# EAGLE library part RPA60-2412SFW_P (library RPA60-2412SFW_P)
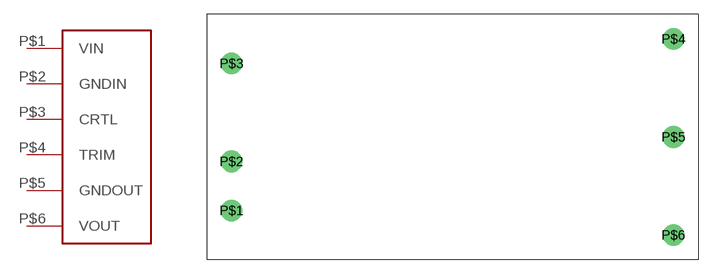
[diagram p0: symbol with the pads of RPA60-2412SFW/P; footprint RPA60-2412SFW/P]

Designator prefix -

## RPA60-2412SFW_P  [RPA60-2412SFW/P]
P$1  VIN
P$2  GNDIN
P$3  CRTL
P$4  TRIM
P$5  GNDOUT
P$6  VOUT

## Footprint RPA60-2412SFW/P (pad centres in mm)
drill 1.5: P$1 0,0; P$2 0,5.08; P$3 0,15.24; P$4 45.72,17.78; P$5 45.72,7.62; P$6 45.72,-2.54